# Altium schematic symbol library DIODES INC.SchLib: 5 symbols
Pins are listed as number, name and electrical type; pins without a type are passive.

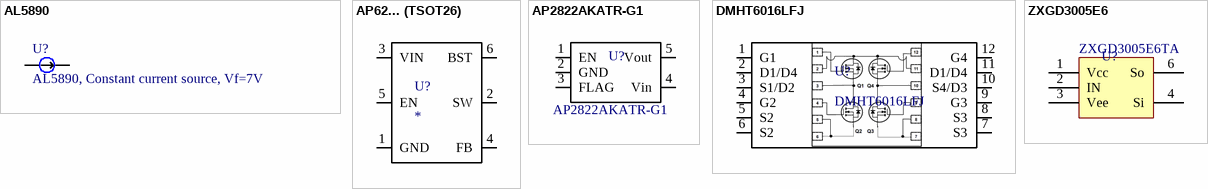
[diagram p0: symbols AL5890 to ZXGD3005E6]

## AL5890
designator U?, comment AL5890, Constant current source, Vf=7V
Manufacturer: Diodes Inc.; Part Number: AL5890-30P; Price 1: 0.45; Price 100: 0.14; Price 1000: 0.098
footprint PowerDi123
pins: 1 Vin, 2 Vout

## AP62... (TSOT26)
designator U?
Buck Converter; Manufacturer: Diodes Incorporated; Part Number: *; Price 1: *; Price 100: *; Price 1000: *
pins: 1 GND, 2 SW, 3 VIN, 4 FB, 5 EN, 6 BST

## AP2822AKATR-G1
designator U?, comment Part Number: AP2822AKATR-G1  (hidden comment: Power Switch IC, 0.5A, High Side)
Manufacturer: Diodes Incorporated; Price 1: 0.24; Price 100: 0.0935; Price 1000: 0.084
footprint SOT23-5BL (SOT23, 5-Leads, Body 2.9x1.6mm, Pitch 0.95mm, Lead Span 2.8mm, IPC High Density)
pins: 1 EN, 2 GND, 3 FLAG, 4 Vin, 5 Vout

## DMHT6016LFJ
designator U?
60V N-CHANNEL ENHANCEMENT MODE MOSFET H-BRIDGE; Manufacturer: Diodes Incorporated; Part Number: DMHT6016LFJ-13; Price 1: 1.47; Price 100: 1.07; Price 1000: 0.722
footprint DMHT6016LFJ (60V N-CHANNEL ENHANCEMENT MODE MOSFET H-BRIDGE)
pins: 1 G1, 2 D1/D4, 3 S1/D2, 4 G2, 5 S2, 6 S2, 7 S3, 8 S3, 9 G3, 10 S4/D3, 11 D1/D4, 12 G4

## ZXGD3005E6
designator U?  value ZXGD3005E6TA  (hidden comment: ZXGD3005E6)
DIODES INC.  ZXGD3005E6TA  GATE DVR, IGBT/MOSFET, SOT26; Catalog number: 1904033RL
footprint SOT26A-6L (SOT23, 6-Leads, Body 2.9x1.7mm, Pitch 0.95mm, Lead Span 2.8mm, IPC High Density)
pins: 1 Vcc, 2 IN, 3 Vee, 4 Si, 6 So